# EAGLE library part XBEE_11-20 (library WSNlib)
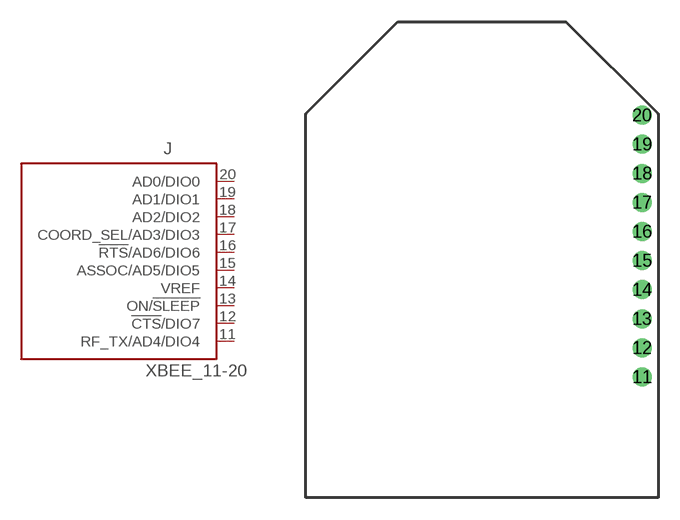
[diagram p15: symbol with the pads of XBEE_11-20; footprint XBEE_11-20]

Designator prefix J

## XBEE_11-20  [XBEE_11-20]
11  RF_TX/AD4/DIO4
12  !CTS!/DIO7
13  ON/!SLEEP  out
14  VREF  in
15  ASSOC/AD5/DIO5
16  !RTS!/AD6/DIO6
17  COORD_SEL/AD3/DIO3
18  AD2/DIO2
19  AD1/DIO1
20  AD0/DIO0

## Footprint XBEE_11-20 (pad centres in mm)
drill 0.8 pad 1.27: 11 11,-9; 12 11,-7; 13 11,-5; 14 11,-3; 15 11,-1; 16 11,1; 17 11,3; 18 11,5; 19 11,7; 20 11,9